# Altium schematic symbol library Landzo电源模块V3.0.SCHLIB: 12 symbols
Pins are listed as number, name and electrical type; pins without a type are passive.

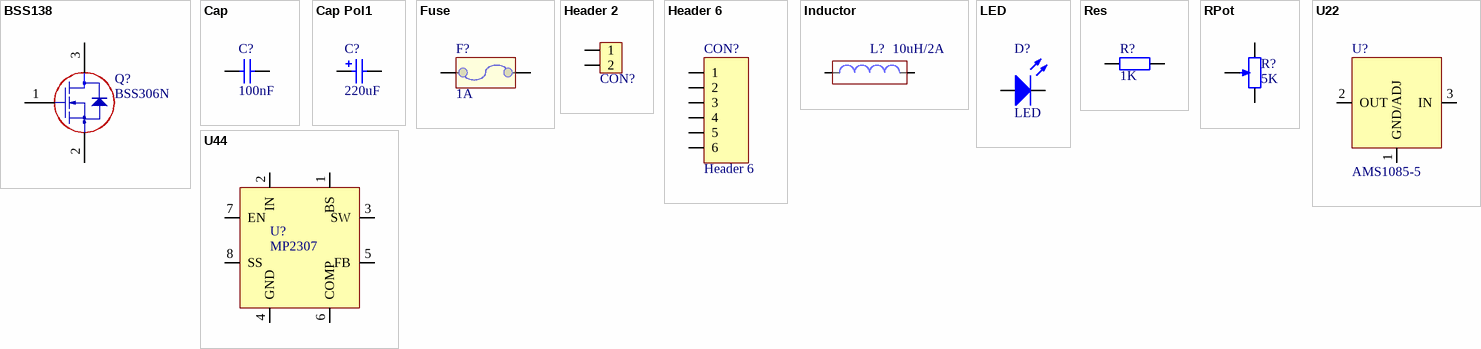
[diagram p0: symbols BSS138 to U44]

## BSS138
designator Q?, comment BSS306N
footprint SOT-23B
pins: 1 G, 2 S, 3 D

## Cap
designator C?, comment 100nF
Capacitor
footprint 0805
pins: 1, 2

## Cap Pol1
designator C?, comment 220uF
Polarized Capacitor (Radial)
footprint AEC_D6.3 (Aluminum Electrolytic Capacitor D Type)
pins: 1, 2
1 alternate drawing of the same symbol

## Fuse
designator F?, comment 1A
Fuse
footprint 1206
pins: 1, 2

## Header 2
designator CON?, comment PowerIn  (value not drawn)
Header, 2-Pin
footprint KF301-2P
pins: 1, 2

## Header 6
designator CON?
Header, 6-Pin
footprint XH2.54_6P
pins: 1, 2, 3, 4, 5, 6

## Inductor
designator L?, comment 10uH/2A
Inductor
footprint PCBComponent_1 - duplicate
pins: 1, 2

## LED
designator D?
Typical INFRARED GaAs LED
footprint 0805LED
pins: 1, 2

## Res
designator R?, comment 1K
Resistor
footprint 0805
pins: 1, 2

## RPot
designator R?, comment 5K
Potentiometer
footprint 3362P
pins: 1 TOP, 2 TAP, 3 BOT
1 alternate drawing of the same symbol

## U22
designator U?, comment AMS1085-5
footprint LR7843
pins: 1 GND/ADJ, 2 OUT, 3 IN

## U44
designator U?, comment MP2307
footprint SO-8
pins: 1 BS, 2 IN, 3 SW, 4 GND, 5 FB, 6 COMP, 7 EN, 8 SS